# Altium schematic symbol library ADCs.SchLib: 1 symbol
Pins are listed as number, name and electrical type; pins without a type are passive.

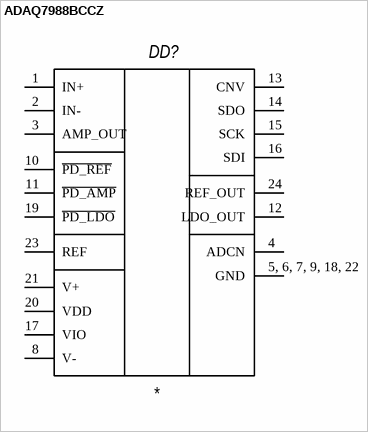
[diagram p0: symbol ADAQ7988BCCZ]

## ADAQ7988BCCZ
designator DD?
pins: 1 IN+, 2 IN-, 3 AMP_OUT, 4 ADCN, 5, 6, 7, 9, 18, 22 GND, 8 V-, 10 ~{PD_REF}, 11 ~{PD_AMP}, 12 LDO_OUT, 13 CNV, 14 SDO, 15 SCK, 16 SDI, 17 VIO, 19 ~{PD_LDO}, 20 VDD, 21 V+, 23 REF, 24 REF_OUT